# Altium footprint library ActiveWave MasterLib.PcbLib: 41 footprints (part 3 of 3)
Each footprint in its own frame and in the unit in brackets; x right, y up, seen from the top. Pads: shape width x height; smd on the part's side, far side on the other; paste and mask are expansions set on the pad; w line width, h text height; cw(c..) or ccw(c..) is an arc to the next point about the centre after c.
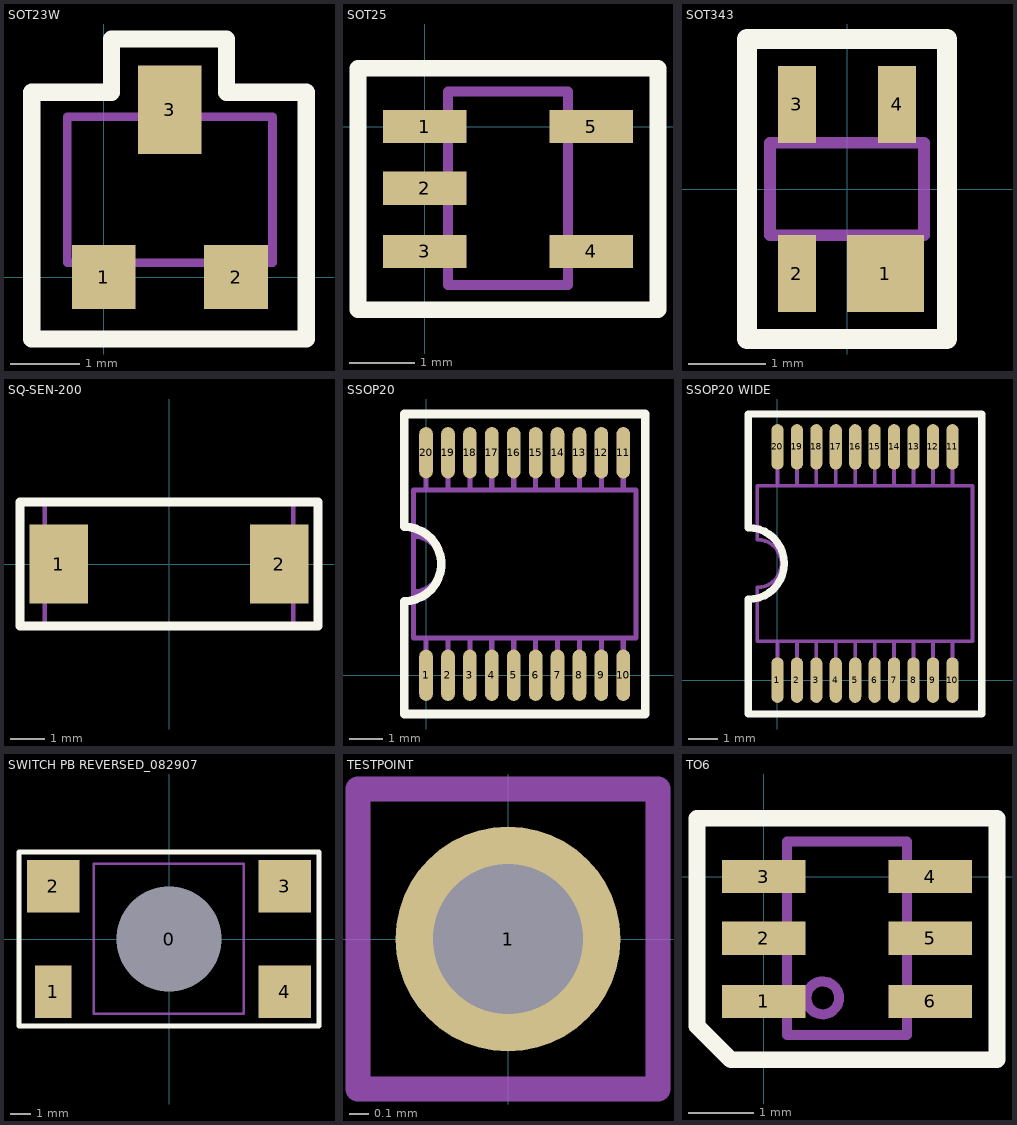
[diagram p2: the footprints below, top view; thin cyan lines are the x and y axes]

## SOT23W [mil]
pads (3):
  rect 36x36 smd: 1(0,0) 2(74.8,0)
  rect 36x50 smd: 3(37.4,94.49)
Top Overlay:
  lines w9.84: -40.6,-35 -40.6,104.49 4.4,104.49 4.4,134.49 22.4,134.49 69.4,134.49 69.4,104.49 114.4,104.49 114.4,-35 -40.6,-35
Mechanical 1:
  lines w4.92: -10.6,8 -10.6,-8 9.4,-8 9.4,8 ; 29.4,90.49 29.4,108.49 45.4,108.49 45.4,90.49 ; 65.4,8 65.4,-8 83.4,-8 83.4,8 ; -20.6,8 -20.6,90.49 95.4,90.49 95.4,8 -20.6,8
Mechanical 8:
  text ".Designator" at -30,120 h19.68

## SOT25 [mil]
pads (5):
  rect 50x20 smd: 1(0,0) 2(0,-37) 3(0,-75) 4(100,-75) 5(100,0)
Top Overlay:
  lines w10: -40,-110 -40,-75 -40,35 140,35 140,-110 -40,-110
Mechanical 1:
  lines w6: 14,-79 -8,-79 -8,-71 12,-71 14,-69 ; 14,-41 -8,-41 -8,-33 14,-33 ; 14,-3 -8,-3 -8,5 14,5 ; 86,-79 108,-79 108,-71 86,-71 ; 86,-3 108,-3 108,5 86,5 ; 14,-95 86,-95 86,21 14,21 14,-95
Mechanical 8:
  text ".Designator" at 60,-100 h19.68

## SOT343 [mm]
pads (4):
  rect 1x1 smd: 1(0.5,-1.1)
  rect 0.5x1 smd: 2(-0.65,-1.1) 3(-0.65,1.1) 4(0.65,1.1)
Top Overlay:
  lines w0.254: -1.3,-1.95 0,-1.95 1.3,-1.95 1.3,0 1.3,1.95 0,1.95 -1.3,1.95 -1.3,0 -1.3,-1.95
Mechanical 1:
  lines w0.152: -0.8,-0.6 -0.8,-1.1 -0.5,-1.1 -0.5,-0.6 ; -0.8,0.6 -0.8,1.1 -0.5,1.1 -0.5,0.6 ; 0.5,-0.6 0.15,-0.6 0.15,-1.1 0.85,-1.1 0.85,-0.6 ; 0.5,0.6 0.5,1.1 0.8,1.1 0.8,0.6 ; -0.5,0.6 -1,0.6 -1,-0.6 1,-0.6 1,0.6 -0.5,0.6
Mechanical 8:
  text ".Designator" at -1.397,-0.127 h0.5

## SQ-SEN-200 [mm]
pads (2):
  rect 1.7x2.3 smd: 1(-3.2,0) 2(3.2,0)
Top Overlay:
  lines w0.254: -4.318,-1.8 -4.318,1.8 4.318,1.8 4.318,-1.8 -4.318,-1.8
Mechanical 1:
  lines w0.125: -3.6,-1.8 3.6,-1.8 3.6,1.8 -3.6,1.8 -3.6,-1.8
Mechanical 8:
  text ".Designator" at -3.302,0.508 h0.5

## SSOP20 [mil]
pads (20):
  oval 16x60 smd: 1(0,0) 2(25.59,0) 3(51.18,0) 4(76.77,0) 5(102.36,0) 6(127.95,0) 7(153.54,0) 8(179.13,0) 9(204.72,0) 10(230.31,0) 11(230.31,259.84) 12(204.72,259.84) 13(179.13,259.84) 14(153.54,259.84) 15(127.95,259.84) 16(102.36,259.84) 17(76.77,259.84) 18(51.18,259.84) 19(25.59,259.84) 20(0,259.84)
Top Overlay:
  lines w10: -25.59,-45.28 -25.59,86.57 ccw(c-25.59,129.92) -25.59,173.27 -25.59,305.12 39.37,305.12 255.91,305.12 255.91,129.92 255.91,-45.28 190.94,-45.28 -25.59,-45.28
Mechanical 1:
  lines w6: -14.76,97.44 ccw(c-14.76,129.92) -14.76,162.4 ; -14.76,129.92 -14.76,43.31 ; 0,0 0,43.31 ; 0,216.54 0,259.84 ; 25.59,0 25.59,43.31 ; 25.59,216.54 25.59,259.84 ; 51.18,0 51.18,43.31 ; 51.18,216.54 51.18,259.84 ; 76.77,0 76.77,43.31 ; 76.77,216.54 76.77,259.84 ; 102.36,0 102.36,43.31 ; 102.36,216.54 102.36,259.84 ; 127.95,0 127.95,43.31 ; 127.95,216.54 127.95,259.84 ; 153.54,0 153.54,43.31 ; 153.54,216.54 153.54,259.84 ; 179.13,0 179.13,43.31 ; 179.13,216.54 179.13,259.84 ; 204.72,0 204.72,43.31 ; 204.72,216.54 204.72,259.84 ; 230.31,0 230.31,43.31 ; 230.31,216.54 230.31,259.84 ; -14.76,43.31 245.08,43.31 245.08,216.54 -14.76,216.54 -14.76,43.31
Mechanical 8:
  text ".Designator" at 40,125 h19.68

## SSOP20 WIDE [mil]
pads (20):
  oval 16x60 smd: 1(0,0) 2(25.59,0) 3(51.18,0) 4(76.77,0) 5(102.36,0) 6(127.95,0) 7(153.54,0) 8(179.13,0) 9(204.72,0) 10(230.31,0) 11(230.31,307.09) 12(204.72,307.09) 13(179.13,307.09) 14(153.54,307.09) 15(127.95,307.09) 16(102.36,307.09) 17(76.77,307.09) 18(51.18,307.09) 19(25.59,307.09) 20(0,307.09)
Top Overlay:
  lines w9.84: -38.39,106.3 -38.39,-44.61 268.7,-44.61 ; -38.39,200.79 -38.39,283.46 -38.39,350.39 268.7,350.39 268.7,271.65 268.7,-43.31
  lines w10: -38.39,106.3 ccw(c-38.39,153.54) -38.39,200.79
Mechanical 1:
  lines w4.92: 0,-7.87 0,51.18 ; 0,255.91 0,314.96 ; 25.59,-7.87 25.59,51.18 ; 25.59,255.91 25.59,314.96 ; 51.18,-7.87 51.18,51.18 ; 51.18,255.91 51.18,314.96 ; 76.77,-7.87 76.77,51.18 ; 76.77,255.91 76.77,314.96 ; 102.36,-7.87 102.36,51.18 ; 102.36,255.91 102.36,314.96 ; 127.95,-7.87 127.95,51.18 ; 127.95,255.91 127.95,314.96 ; 153.54,-7.87 153.54,51.18 ; 153.54,255.91 153.54,314.96 ; 179.13,-7.87 179.13,51.18 ; 179.13,255.91 179.13,314.96 ; 204.72,-7.87 204.72,51.18 ; 204.72,255.91 204.72,314.96 ; 230.31,-7.87 230.31,51.18 ; 230.31,255.91 230.31,314.96 ; -26.57,51.18 -26.57,122.05 ccw(c-26.57,153.54) -26.57,185.04 -26.57,255.91 115.16,255.91 256.89,255.91 256.89,153.54 256.89,51.18 115.16,51.18 -26.57,51.18
Mechanical 8:
  text ".Designator" at -15,215 h19.68

## SWITCH PB REVERSED_082907 [mil] "SMT"
pads (5):
  round 195 hole 200 unplated: 0(0,0)
  rect 70x100 smd: 1(-220,-100)
  rect 100x100 smd: 2(-220,100) 3(220,100) 4(220,-100)
Top Overlay:
  lines w9.84: -285,-165 0,-165 285,-165 285,0 285,165 0,165 -285,165 -285,0 -285,-165
Mechanical 1:
  circle w10: c0,0 r75
  circle w4.92: c0,0 r59
  lines w4.92: -142.61,-142.39 142.39,-142.39 142.39,142.61 -142.61,142.61 -142.61,-142.39
Mechanical 8:
  text ".Designator" at -130,-130 h19.68

## TESTPOINT [mil]
pads (1):
  round 45 hole 30: 1(0,0)
Mechanical 1:
  lines w4.92: -30,-30 30,-30 30,30 0,30 -30,30 -30,-30
Mechanical 8:
  text ".Designator" at -65,-5 h19.68

## TO6 [mil]
pads (6):
  rect 50x20 smd: 1(0,-75) 2(0,-37) 3(0,0) 4(100,0) 5(100,-37) 6(100,-75)
Top Overlay:
  lines w10: -40,-75 -40,35 ; -40,35 -40,-89.69 -19.68,-110 140,-110 140,35 -40,35
Mechanical 1:
  circle w6: c35.43,-72.83 r9.84
  lines w6: 14,-79 -8,-79 -8,-71 12,-71 14,-69 ; 14,-41 -8,-41 -8,-33 14,-33 ; 14,-3 -8,-3 -8,5 14,5 ; 86,-79 108,-79 108,-71 86,-71 ; 86,-41 108,-41 108,-33 86,-33 ; 86,-3 108,-3 108,5 86,5 ; 14,-95 86,-95 86,21 14,21 14,-95
Mechanical 8:
  text ".Designator" at 60,-95 h19.68